# Altium schematic symbol library AD7322.Schlib: 1 symbol
Pins are listed as number, name and electrical type; pins without a type are passive.

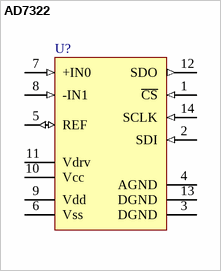
[diagram p0: symbol AD7322]

## AD7322
designator U?
12bit serial ADC
footprint TSSOP14_AD
pins: 1 ~{CS} (in), 2 SDI (in), 3 DGND (power), 4 AGND (power), 5 REF (io), 6 Vss (power) "Negative power supply for analog", 7 +IN0 (in), 8 -IN1 (in), 9 Vdd (power) "Positive power supply for analog", 10 Vcc (power) "Power for ADC core", 11 Vdrv (power) "interface power supply", 12 SDO (out), 13 DGND (power), 14 SCLK (in)